# EAGLE library part DP83630 (library DP83630)
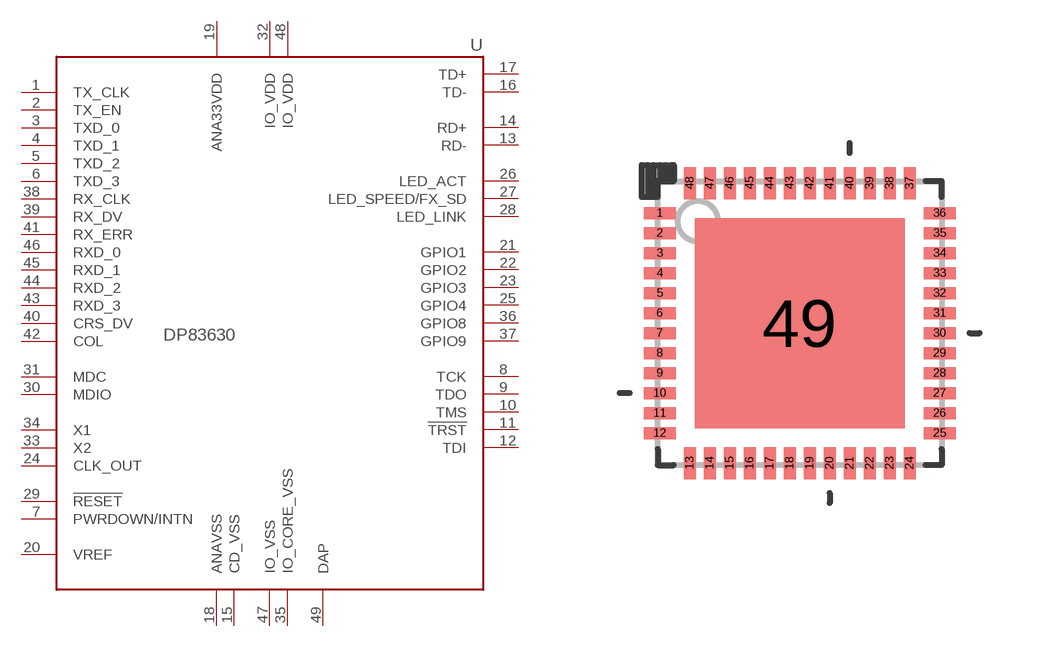
[diagram p0: symbol with the pads of QFN50P700X700X80-49N; footprint QFN50P700X700X80-49N]

Designator prefix U

## DP83630/LLP  [QFN50P700X700X80-49N]
1  TX_CLK  out
2  TX_EN  in
3  TXD_0  in
4  TXD_1  in
5  TXD_2  in
6  TXD_3  in
7  PWRDOWN/INTN  in
8  TCK  in
9  TDO  out
10  TMS  in
11  !TRST  in
12  TDI  in
13  RD-
14  RD+
15  CD_VSS  pwr
16  TD-
17  TD+
18  ANAVSS  pwr
19  ANA33VDD  pwr
20  VREF  in
21  GPIO1
22  GPIO2
23  GPIO3
24  CLK_OUT
25  GPIO4
26  LED_ACT  out
27  LED_SPEED/FX_SD  out
28  LED_LINK  out
29  !RESET  in
30  MDIO
31  MDC  in
32  IO_VDD  pwr
33  X2  out
34  X1  in
35  IO_CORE_VSS  pwr
36  GPIO8
37  GPIO9
38  RX_CLK  out
39  RX_DV  out
40  CRS_DV  out
41  RX_ERR  out
42  COL  out
43  RXD_3  out
44  RXD_2  out
45  RXD_1  out
46  RXD_0  out
47  IO_VSS  pwr
48  IO_VDD  pwr
49  DAP  in

## Footprint QFN50P700X700X80-49N (pad centres in mm)
smd 0.8 x 0.3: 1 -3.5,2.75; 2 -3.5,2.25; 3 -3.5,1.75; 4 -3.5,1.25; 5 -3.5,0.75; 6 -3.5,0.25; 7 -3.5,-0.25; 8 -3.5,-0.75; 9 -3.5,-1.25; 10 -3.5,-1.75; 11 -3.5,-2.25; 12 -3.5,-2.75; 25 3.5,-2.75; 26 3.5,-2.25; 27 3.5,-1.75; 28 3.5,-1.25; 29 3.5,-0.75; 30 3.5,-0.25; 31 3.5,0.25; 32 3.5,0.75; 33 3.5,1.25; 34 3.5,1.75; 35 3.5,2.25; 36 3.5,2.75
smd 0.3 x 0.8: 13 -2.75,-3.5; 14 -2.25,-3.5; 15 -1.75,-3.5; 16 -1.25,-3.5; 17 -0.75,-3.5; 18 -0.25,-3.5; 19 0.25,-3.5; 20 0.75,-3.5; 21 1.25,-3.5; 22 1.75,-3.5; 23 2.25,-3.5; 24 2.75,-3.5; 37 2.75,3.5; 38 2.25,3.5; 39 1.75,3.5; 40 1.25,3.5; 41 0.75,3.5; 42 0.25,3.5; 43 -0.25,3.5; 44 -0.75,3.5; 45 -1.25,3.5; 46 -1.75,3.5; 47 -2.25,3.5; 48 -2.75,3.5
smd 5.25 x 5.25: 49 0,0